# EAGLE library part EP3C16E144 (library altera)
EP3C16E144 edit this description Auto generated by make-symbol-device-package-bsdl.ulp Rev. 44 Source: EP3C16E144.txt
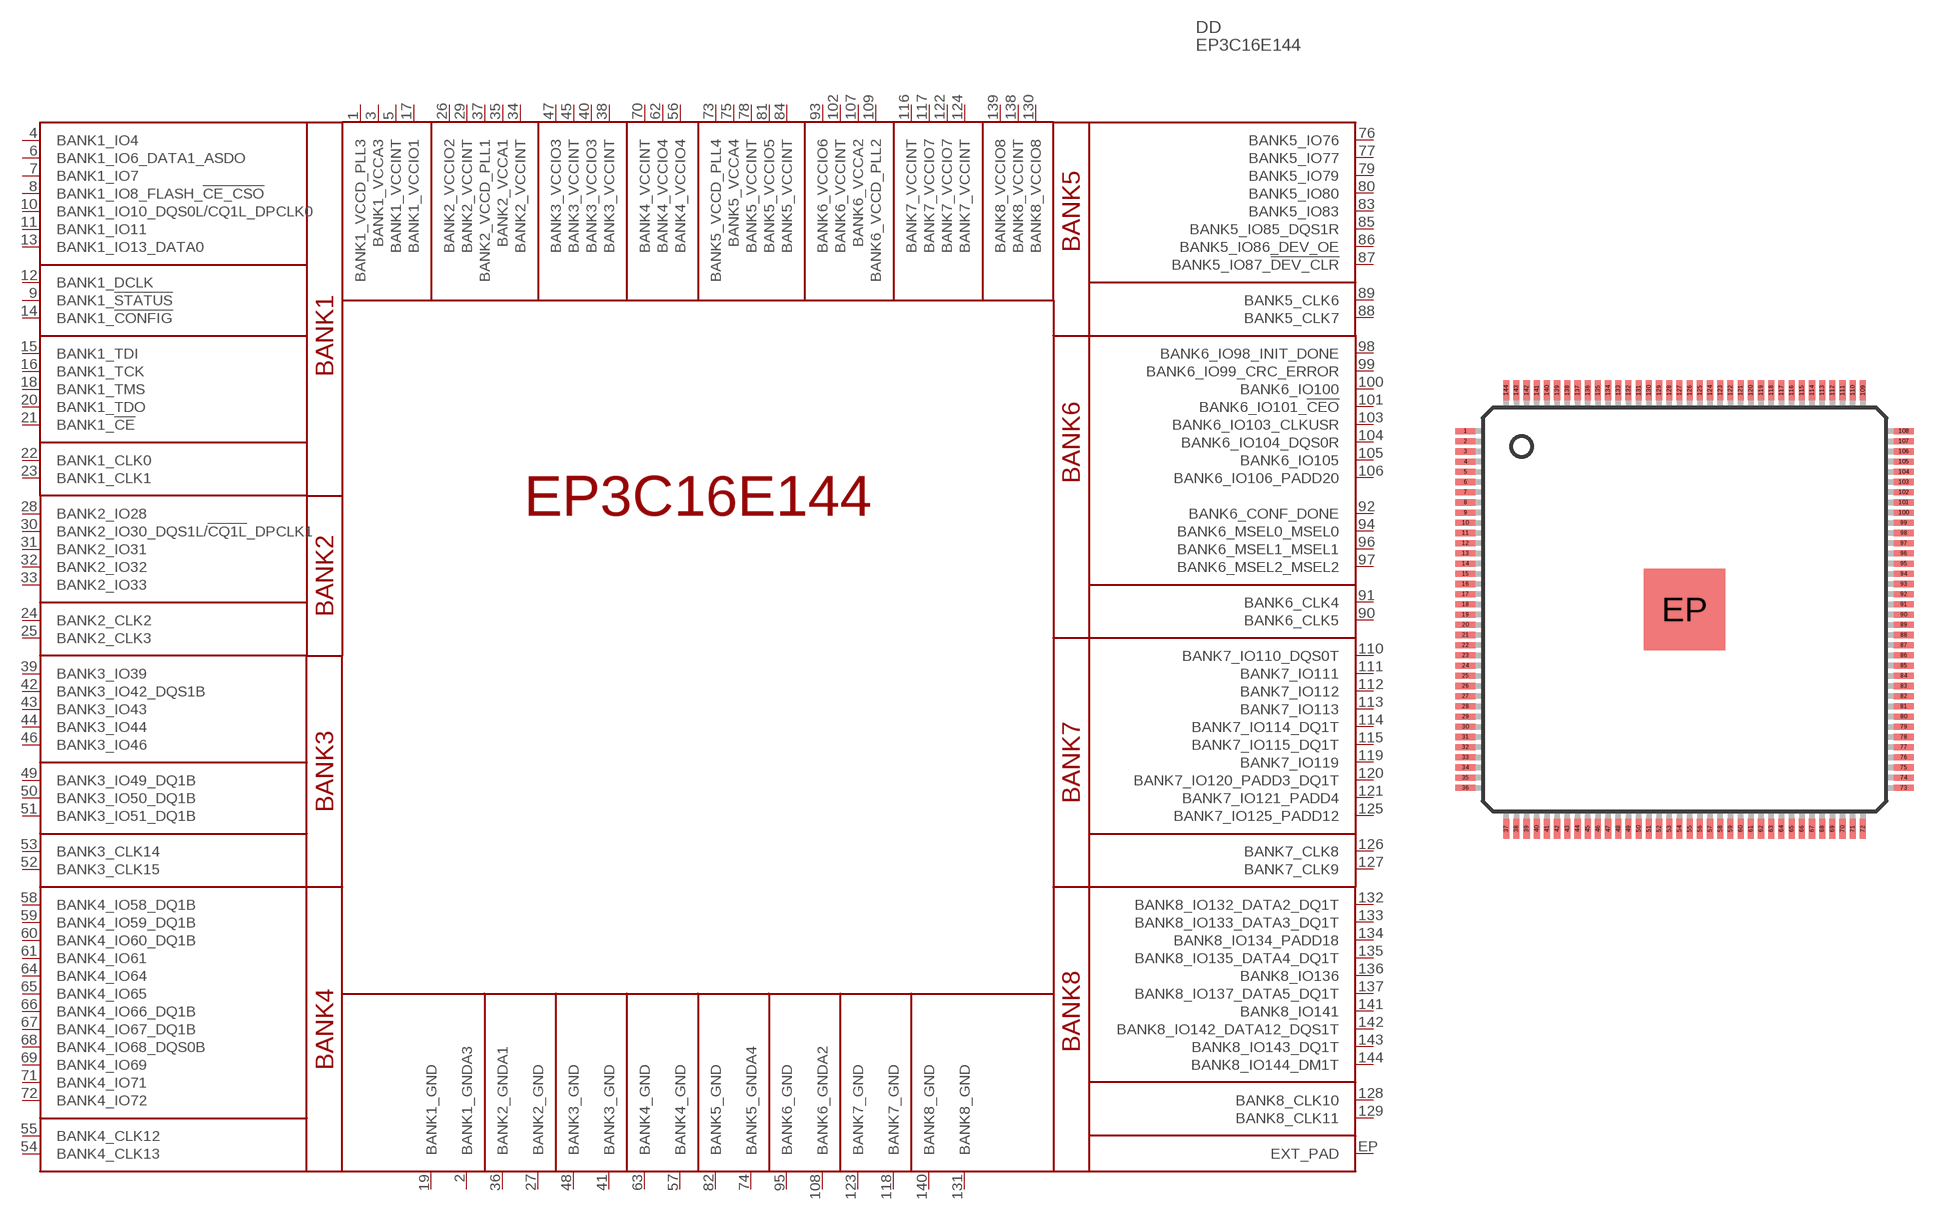
[diagram p1: symbol with the pads of EQFP144; footprint EQFP144]

Designator prefix DD

## EP3C16E144E144  [EQFP144]
1  BANK1_VCCD_PLL3  pwr
2  BANK1_GNDA3  pwr
3  BANK1_VCCA3  pwr
4  BANK1_IO4
5  BANK1_VCCINT  pwr
6  BANK1_IO6_DATA1_ASDO
7  BANK1_IO7
8  BANK1_IO8_FLASH_!CE_CSO
9  BANK1_!STATUS
10  BANK1_IO10_DQS0L/CQ1L_DPCLK0
11  BANK1_IO11
12  BANK1_DCLK  in
13  BANK1_IO13_DATA0
14  BANK1_!CONFIG
15  BANK1_TDI  in
16  BANK1_TCK  in
17  BANK1_VCCIO1  pwr
18  BANK1_TMS
19  BANK1_GND  pwr
20  BANK1_TDO  out
21  BANK1_!CE  out
22  BANK1_CLK0  in
23  BANK1_CLK1  in
24  BANK2_CLK2  in
25  BANK2_CLK3  in
26  BANK2_VCCIO2  pwr
27  BANK2_GND  pwr
28  BANK2_IO28
29  BANK2_VCCINT  pwr
30  BANK2_IO30_DQS1L/!CQ1L!_DPCLK1
31  BANK2_IO31
32  BANK2_IO32
33  BANK2_IO33
34  BANK2_VCCINT  pwr
35  BANK2_VCCA1  pwr
36  BANK2_GNDA1  pwr
37  BANK2_VCCD_PLL1  pwr
38  BANK3_VCCINT  pwr
39  BANK3_IO39
40  BANK3_VCCIO3  pwr
41  BANK3_GND  pwr
42  BANK3_IO42_DQS1B
43  BANK3_IO43
44  BANK3_IO44
45  BANK3_VCCINT  pwr
46  BANK3_IO46
47  BANK3_VCCIO3  pwr
48  BANK3_GND  pwr
49  BANK3_IO49_DQ1B
50  BANK3_IO50_DQ1B
51  BANK3_IO51_DQ1B
52  BANK3_CLK15  in
53  BANK3_CLK14  in
54  BANK4_CLK13  in
55  BANK4_CLK12  in
56  BANK4_VCCIO4  pwr
57  BANK4_GND  pwr
58  BANK4_IO58_DQ1B
59  BANK4_IO59_DQ1B
60  BANK4_IO60_DQ1B
61  BANK4_IO61
62  BANK4_VCCIO4  pwr
63  BANK4_GND  pwr
64  BANK4_IO64
65  BANK4_IO65
66  BANK4_IO66_DQ1B
67  BANK4_IO67_DQ1B
68  BANK4_IO68_DQS0B
69  BANK4_IO69
70  BANK4_VCCINT  pwr
71  BANK4_IO71
72  BANK4_IO72
73  BANK5_VCCD_PLL4  pwr
74  BANK5_GNDA4  pwr
75  BANK5_VCCA4  pwr
76  BANK5_IO76
77  BANK5_IO77
78  BANK5_VCCINT  pwr
79  BANK5_IO79
80  BANK5_IO80
81  BANK5_VCCIO5  pwr
82  BANK5_GND  pwr
83  BANK5_IO83
84  BANK5_VCCINT  pwr
85  BANK5_IO85_DQS1R
86  BANK5_IO86_DEV_OE
87  BANK5_IO87_!DEV_CLR
88  BANK5_CLK7  in
89  BANK5_CLK6  in
90  BANK6_CLK5  in
91  BANK6_CLK4  in
92  BANK6_CONF_DONE  out
93  BANK6_VCCIO6  pwr
94  BANK6_MSEL0_MSEL0  in
95  BANK6_GND  pwr
96  BANK6_MSEL1_MSEL1  in
97  BANK6_MSEL2_MSEL2  in
98  BANK6_IO98_INIT_DONE
99  BANK6_IO99_CRC_ERROR
100  BANK6_IO100
101  BANK6_IO101_!CEO
102  BANK6_VCCINT  pwr
103  BANK6_IO103_CLKUSR
104  BANK6_IO104_DQS0R
105  BANK6_IO105
106  BANK6_IO106_PADD20
107  BANK6_VCCA2  pwr
108  BANK6_GNDA2  pwr
109  BANK6_VCCD_PLL2  pwr
110  BANK7_IO110_DQS0T
111  BANK7_IO111
112  BANK7_IO112
113  BANK7_IO113
114  BANK7_IO114_DQ1T
115  BANK7_IO115_DQ1T
116  BANK7_VCCINT  pwr
117  BANK7_VCCIO7  pwr
118  BANK7_GND  pwr
119  BANK7_IO119
120  BANK7_IO120_PADD3_DQ1T
121  BANK7_IO121_PADD4
122  BANK7_VCCIO7  pwr
123  BANK7_GND  pwr
124  BANK7_VCCINT  pwr
125  BANK7_IO125_PADD12
126  BANK7_CLK8  in
127  BANK7_CLK9  in
128  BANK8_CLK10  in
129  BANK8_CLK11  in
130  BANK8_VCCIO8  pwr
131  BANK8_GND  pwr
132  BANK8_IO132_DATA2_DQ1T
133  BANK8_IO133_DATA3_DQ1T
134  BANK8_IO134_PADD18
135  BANK8_IO135_DATA4_DQ1T
136  BANK8_IO136
137  BANK8_IO137_DATA5_DQ1T
138  BANK8_VCCINT  pwr
139  BANK8_VCCIO8  pwr
140  BANK8_GND  pwr
141  BANK8_IO141
142  BANK8_IO142_DATA12_DQS1T
143  BANK8_IO143_DQ1T
144  BANK8_IO144_DM1T
EP  EXT_PAD  pwr

## Footprint EQFP144 (pad centres in mm)
EQFP144 Source: http://www.altera.com/literature/ds/144-EQFP.pdf
smd 1 x 0.3: 1 -10.75,8.75; 2 -10.75,8.25; 3 -10.75,7.75; 4 -10.75,7.25; 5 -10.75,6.75; 6 -10.75,6.25; 7 -10.75,5.75; 8 -10.75,5.25; 9 -10.75,4.75; 10 -10.75,4.25; 11 -10.75,3.75; 12 -10.75,3.25; 13 -10.75,2.75; 14 -10.75,2.25; 15 -10.75,1.75; 16 -10.75,1.25; 17 -10.75,0.75; 18 -10.75,0.25; 19 -10.75,-0.25; 20 -10.75,-0.75; 21 -10.75,-1.25; 22 -10.75,-1.75; 23 -10.75,-2.25; 24 -10.75,-2.75; 25 -10.75,-3.25; 26 -10.75,-3.75; 27 -10.75,-4.25; 28 -10.75,-4.75; 29 -10.75,-5.25; 30 -10.75,-5.75; 31 -10.75,-6.25; 32 -10.75,-6.75; 33 -10.75,-7.25; 34 -10.75,-7.75; 35 -10.75,-8.25; 36 -10.75,-8.75; 73 10.75,-8.75; 74 10.75,-8.25; 75 10.75,-7.75; 76 10.75,-7.25; 77 10.75,-6.75; 78 10.75,-6.25; 79 10.75,-5.75; 80 10.75,-5.25; 81 10.75,-4.75; 82 10.75,-4.25; 83 10.75,-3.75; 84 10.75,-3.25; 85 10.75,-2.75; 86 10.75,-2.25; 87 10.75,-1.75; 88 10.75,-1.25; 89 10.75,-0.75; 90 10.75,-0.25; 91 10.75,0.25; 92 10.75,0.75; 93 10.75,1.25; 94 10.75,1.75; 95 10.75,2.25; 96 10.75,2.75; 97 10.75,3.25; 98 10.75,3.75; 99 10.75,4.25; 100 10.75,4.75; 101 10.75,5.25; 102 10.75,5.75; 103 10.75,6.25; 104 10.75,6.75; 105 10.75,7.25; 106 10.75,7.75; 107 10.75,8.25; 108 10.75,8.75
smd 0.3 x 1: 37 -8.75,-10.75; 38 -8.25,-10.75; 39 -7.75,-10.75; 40 -7.25,-10.75; 41 -6.75,-10.75; 42 -6.25,-10.75; 43 -5.75,-10.75; 44 -5.25,-10.75; 45 -4.75,-10.75; 46 -4.25,-10.75; 47 -3.75,-10.75; 48 -3.25,-10.75; 49 -2.75,-10.75; 50 -2.25,-10.75; 51 -1.75,-10.75; 52 -1.25,-10.75; 53 -0.75,-10.75; 54 -0.25,-10.75; 55 0.25,-10.75; 56 0.75,-10.75; 57 1.25,-10.75; 58 1.75,-10.75; 59 2.25,-10.75; 60 2.75,-10.75; 61 3.25,-10.75; 62 3.75,-10.75; 63 4.25,-10.75; 64 4.75,-10.75; 65 5.25,-10.75; 66 5.75,-10.75; 67 6.25,-10.75; 68 6.75,-10.75; 69 7.25,-10.75; 70 7.75,-10.75; 71 8.25,-10.75; 72 8.75,-10.75; 109 8.75,10.75; 110 8.25,10.75; 111 7.75,10.75; 112 7.25,10.75; 113 6.75,10.75; 114 6.25,10.75; 115 5.75,10.75; 116 5.25,10.75; 117 4.75,10.75; 118 4.25,10.75; 119 3.75,10.75; 120 3.25,10.75; 121 2.75,10.75; 122 2.25,10.75; 123 1.75,10.75; 124 1.25,10.75; 125 0.75,10.75; 126 0.25,10.75; 127 -0.25,10.75; 128 -0.75,10.75; 129 -1.25,10.75; 130 -1.75,10.75; 131 -2.25,10.75; 132 -2.75,10.75; 133 -3.25,10.75; 134 -3.75,10.75; 135 -4.25,10.75; 136 -4.75,10.75; 137 -5.25,10.75; 138 -5.75,10.75; 139 -6.25,10.75; 140 -6.75,10.75; 141 -7.25,10.75; 142 -7.75,10.75; 143 -8.25,10.75; 144 -8.75,10.75
smd 4 x 4: EP 0,0